# Altium footprint library PCB - DIODES - TO-46-2_Window.PcbLib: 1 footprints
Each footprint in its own frame and in the unit in brackets; x right, y up, seen from the top. Pads: shape width x height; smd on the part's side, far side on the other; paste and mask are expansions set on the pad; w line width, h text height; cw(c..) or ccw(c..) is an arc to the next point about the centre after c.
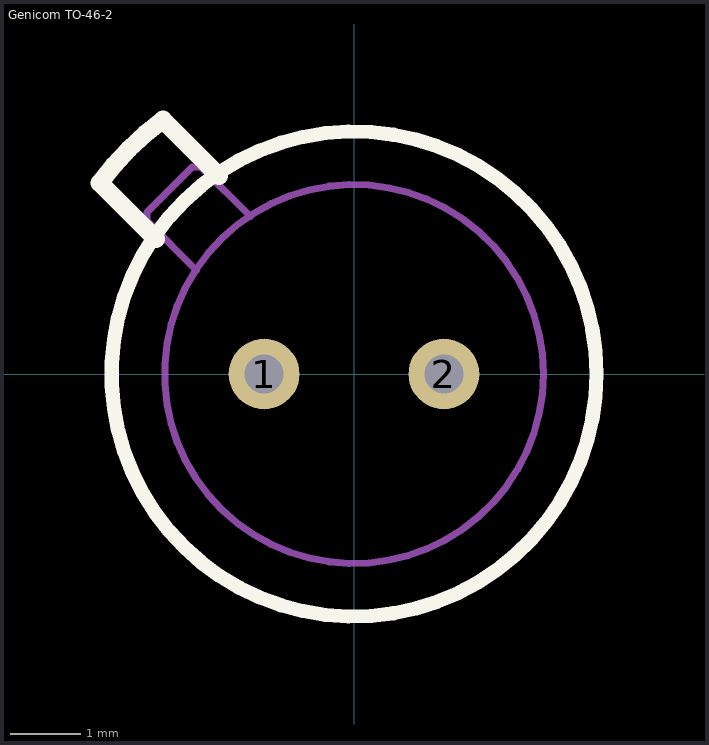
[diagram p0: the footprint, top view; thin cyan lines are the x and y axes]

## Genicom TO-46-2 [mm] "Genicom windowed TO-46-2"
pads (2):
  round 1 hole 0.55: 1(-1.27,0) 2(1.27,0)
Top Overlay:
  circle w0.2: c0,0 r3.425
  lines w0.254: -2.794,1.905 -3.585,2.696 -3.595,2.696 cw(c0,0) -2.696,3.595 -2.696,3.585 -1.905,2.794
Mechanical 13:
  circle w0.1: c0,0 r2.675
  lines w0.1: -2.222,1.46 -2.921,2.159 -2.921,2.286 -2.286,2.921 -2.159,2.921 -1.46,2.222
3D body "TO-46-2.step": height 2.2, standoff -10, extent -3.064,-2.897 2.9,4.335